# Altium schematic symbol library ol-c-212H.SchLib: 1 symbol
Pins are listed as number, name and electrical type; pins without a type are passive.

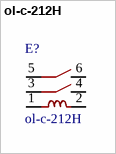
[diagram p0: symbol ol-c-212H]

## ol-c-212H
designator E?
pins: 1, 2, 3, 4, 5, 6